# Altium footprint library L-SPE-PFL4514.PcbLib: 1 footprints
Each footprint in its own frame and in the unit in brackets; x right, y up, seen from the top. Pads: shape width x height; smd on the part's side, far side on the other; paste and mask are expansions set on the pad; w line width, h text height; cw(c..) or ccw(c..) is an arc to the next point about the centre after c.
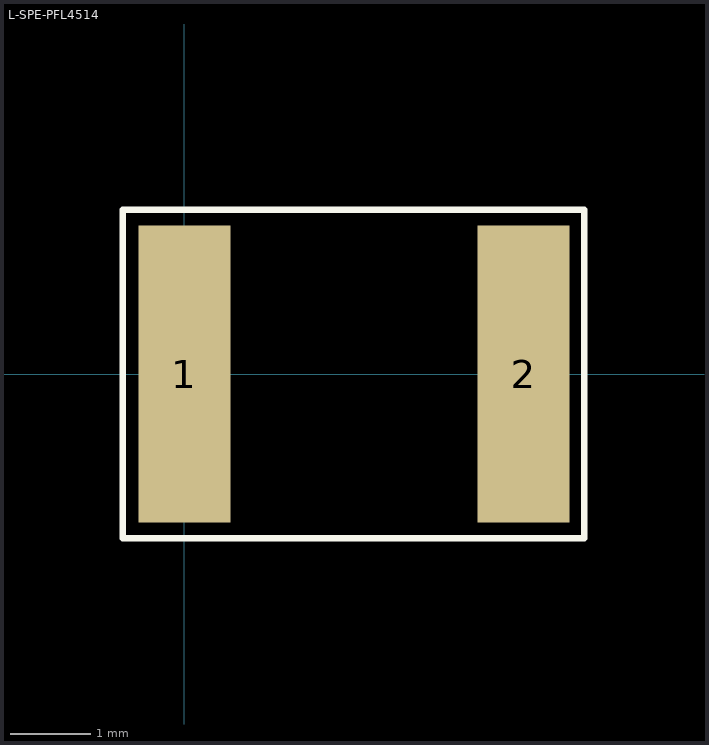
[diagram p0: the footprint, top view; thin cyan lines are the x and y axes]

## L-SPE-PFL4514 [mm]
pads (2):
  rect 1.14x3.68 smd: 1(0,0) 2(4.2,0)
Top Overlay:
  lines w0.08: -0.762,-2.032 -0.762,2.032 4.953,2.032 4.953,-2.032 -0.762,-2.032
3D body: height 1.35, standoff -0.01, extent -0.418,-1.7 4.482,1.7